# Altium schematic symbol library INDUCTOR.Schlib: 1 symbol
Pins are listed as number, name and electrical type; pins without a type are passive.

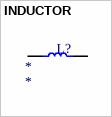
[diagram p0: symbol INDUCTOR]

## INDUCTOR
designator L?  (value not drawn)
Resistor; Value: *; Power: *
pins: 1, 2